# Altium schematic symbol library MCU_Microchip_PIC12.SchLib: 114 symbols (part 1 of 2)
Pins are listed as number, name and electrical type; pins without a type are passive.

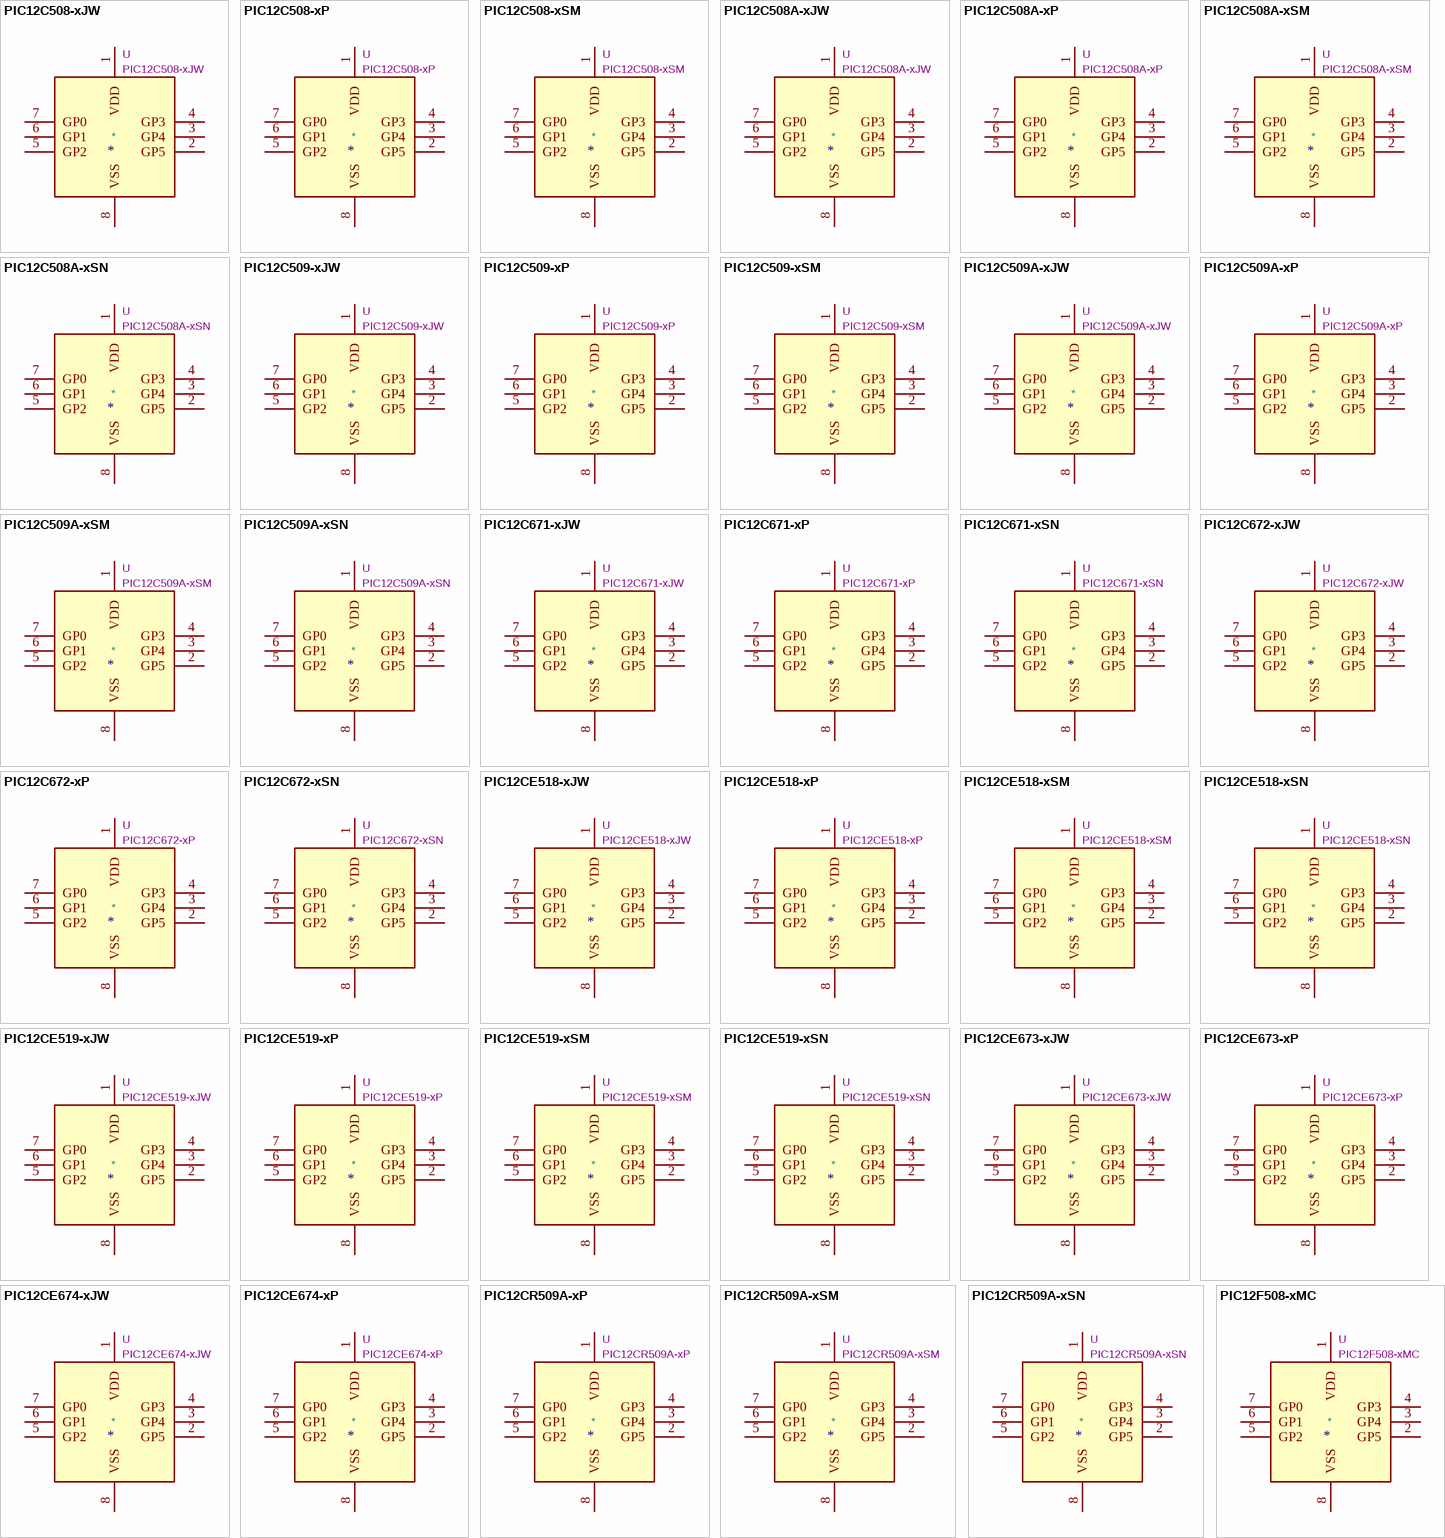
[diagram p0: symbols PIC12C508-xJW to PIC12F508-xMC]

## PIC12C508-xJW
designator *  value PIC12C508-xJW  Reference: U
PIC12C508, 512W EPROM, 25B SRAM, CERDIP-8 Windowed; ki_keywords: 8-Bit CMOS Microcontroller; ki_fp_filters: CERDIP*7.62mm*SideBrazed*; Footprint: Package_DIP:CERDIP-8_W7.62mm_SideBrazed; Datasheet: https://ww1.microchip.com/downloads/en/devicedoc/40139e.pdf; Description_: PIC12C508, 512W EPROM, 25B SRAM, CERDIP-8 Windowed
pins: 1 VDD, 2 GP5, 3 GP4, 4 GP3, 5 GP2, 6 GP1, 7 GP0, 8 VSS

## PIC12C508-xP
designator *  value PIC12C508-xP  Reference: U
512W EPROM, 25B SRAM, PDIP-8; ki_keywords: 8-Bit CMOS Microcontroller; ki_fp_filters: DIP*W7.62mm*; Footprint: Package_DIP:DIP-8_W7.62mm; Datasheet: https://ww1.microchip.com/downloads/en/devicedoc/40139e.pdf; Description_: 512W EPROM, 25B SRAM, PDIP-8
pins: 1 VDD, 2 GP5, 3 GP4, 4 GP3, 5 GP2, 6 GP1, 7 GP0, 8 VSS

## PIC12C508-xSM
designator *  value PIC12C508-xSM  Reference: U
PIC12C508, 512W EPROM, 25B SRAM, SOIC-8 (208 mil); ki_keywords: 8-Bit CMOS Microcontroller; ki_fp_filters: *SOIC*5.3x5.3mm*P1.27mm*; Footprint: Package_SO:SOIC-8_5.3x5.3mm_P1.27mm; Datasheet: https://ww1.microchip.com/downloads/en/devicedoc/40139e.pdf; Description_: PIC12C508, 512W EPROM, 25B SRAM, SOIC-8 (208 mil)
pins: 1 VDD, 2 GP5, 3 GP4, 4 GP3, 5 GP2, 6 GP1, 7 GP0, 8 VSS

## PIC12C508A-xJW
designator *  value PIC12C508A-xJW  Reference: U
PIC12C508A, 512W EPROM, 25B SRAM, CERDIP-8 Windowed; ki_keywords: 8-Bit CMOS Microcontroller; ki_fp_filters: CERDIP*7.62mm*SideBrazed*; Footprint: Package_DIP:CERDIP-8_W7.62mm_SideBrazed; Datasheet: https://ww1.microchip.com/downloads/en/devicedoc/40139e.pdf; Description_: PIC12C508A, 512W EPROM, 25B SRAM, CERDIP-8 Windowed
pins: 1 VDD, 2 GP5, 3 GP4, 4 GP3, 5 GP2, 6 GP1, 7 GP0, 8 VSS

## PIC12C508A-xP
designator *  value PIC12C508A-xP  Reference: U
512W EPROM, 25B SRAM, PDIP-8; ki_keywords: 8-Bit CMOS Microcontroller; ki_fp_filters: DIP*W7.62mm*; Footprint: Package_DIP:DIP-8_W7.62mm; Datasheet: https://ww1.microchip.com/downloads/en/devicedoc/40139e.pdf; Description_: 512W EPROM, 25B SRAM, PDIP-8
pins: 1 VDD, 2 GP5, 3 GP4, 4 GP3, 5 GP2, 6 GP1, 7 GP0, 8 VSS

## PIC12C508A-xSM
designator *  value PIC12C508A-xSM  Reference: U
PIC12C508A, 512W EPROM, 25B SRAM, SOIC-8 (208 mil); ki_keywords: 8-Bit CMOS Microcontroller; ki_fp_filters: *SOIC*5.3x5.3mm*P1.27mm*; Footprint: Package_SO:SOIC-8_5.3x5.3mm_P1.27mm; Datasheet: https://ww1.microchip.com/downloads/en/devicedoc/40139e.pdf; Description_: PIC12C508A, 512W EPROM, 25B SRAM, SOIC-8 (208 mil)
pins: 1 VDD, 2 GP5, 3 GP4, 4 GP3, 5 GP2, 6 GP1, 7 GP0, 8 VSS

## PIC12C508A-xSN
designator *  value PIC12C508A-xSN  Reference: U
PIC12C508A, 512W EPROM, 25B SRAM, SOIC-8 (150 mil); ki_keywords: 8-Bit CMOS Microcontroller; ki_fp_filters: SOIC*3.9x4.9mm*; Footprint: Package_SO:SOIC-8_3.9x4.9mm_P1.27mm; Datasheet: https://ww1.microchip.com/downloads/en/devicedoc/40139e.pdf; Description_: PIC12C508A, 512W EPROM, 25B SRAM, SOIC-8 (150 mil)
pins: 1 VDD, 2 GP5, 3 GP4, 4 GP3, 5 GP2, 6 GP1, 7 GP0, 8 VSS

## PIC12C509-xJW
designator *  value PIC12C509-xJW  Reference: U
PIC12C509, 1024W EPROM, 41B SRAM, CERDIP-8 Windowed; ki_keywords: 8-Bit CMOS Microcontroller; ki_fp_filters: CERDIP*7.62mm*SideBrazed*; Footprint: Package_DIP:CERDIP-8_W7.62mm_SideBrazed; Datasheet: https://ww1.microchip.com/downloads/en/devicedoc/40139e.pdf; Description_: PIC12C509, 1024W EPROM, 41B SRAM, CERDIP-8 Windowed
pins: 1 VDD, 2 GP5, 3 GP4, 4 GP3, 5 GP2, 6 GP1, 7 GP0, 8 VSS

## PIC12C509-xP
designator *  value PIC12C509-xP  Reference: U
1024W EPROM, 41B SRAM, PDIP-8; ki_keywords: 8-Bit CMOS Microcontroller; ki_fp_filters: DIP*W7.62mm*; Footprint: Package_DIP:DIP-8_W7.62mm; Datasheet: https://ww1.microchip.com/downloads/en/devicedoc/40139e.pdf; Description_: 1024W EPROM, 41B SRAM, PDIP-8
pins: 1 VDD, 2 GP5, 3 GP4, 4 GP3, 5 GP2, 6 GP1, 7 GP0, 8 VSS

## PIC12C509-xSM
designator *  value PIC12C509-xSM  Reference: U
PIC12C509, 1024W EPROM, 41B SRAM, SOIC-8 (208 mil); ki_keywords: 8-Bit CMOS Microcontroller; ki_fp_filters: *SOIC*5.3x5.3mm*P1.27mm*; Footprint: Package_SO:SOIC-8_5.3x5.3mm_P1.27mm; Datasheet: https://ww1.microchip.com/downloads/en/devicedoc/40139e.pdf; Description_: PIC12C509, 1024W EPROM, 41B SRAM, SOIC-8 (208 mil)
pins: 1 VDD, 2 GP5, 3 GP4, 4 GP3, 5 GP2, 6 GP1, 7 GP0, 8 VSS

## PIC12C509A-xJW
designator *  value PIC12C509A-xJW  Reference: U
PIC12C509A, 1024W EPROM, 41B SRAM, CERDIP-8 Windowed; ki_keywords: 8-Bit CMOS Microcontroller; ki_fp_filters: CERDIP*7.62mm*SideBrazed*; Footprint: Package_DIP:CERDIP-8_W7.62mm_SideBrazed; Datasheet: https://ww1.microchip.com/downloads/en/devicedoc/40139e.pdf; Description_: PIC12C509A, 1024W EPROM, 41B SRAM, CERDIP-8 Windowed
pins: 1 VDD, 2 GP5, 3 GP4, 4 GP3, 5 GP2, 6 GP1, 7 GP0, 8 VSS

## PIC12C509A-xP
designator *  value PIC12C509A-xP  Reference: U
PIC12C509, 1024W EPROM, 41B SRAM, PDIP-8; ki_keywords: 8-Bit CMOS Microcontroller; ki_fp_filters: DIP*W7.62mm*; Footprint: Package_DIP:DIP-8_W7.62mm; Datasheet: https://ww1.microchip.com/downloads/en/devicedoc/40139e.pdf; Description_: PIC12C509, 1024W EPROM, 41B SRAM, PDIP-8
pins: 1 VDD, 2 GP5, 3 GP4, 4 GP3, 5 GP2, 6 GP1, 7 GP0, 8 VSS

## PIC12C509A-xSM
designator *  value PIC12C509A-xSM  Reference: U
PIC12C509A, 1024W EPROM, 41B SRAM, SOIC-8 (208 mil); ki_keywords: 8-Bit CMOS Microcontroller; ki_fp_filters: *SOIC*5.3x5.3mm*P1.27mm*; Footprint: Package_SO:SOIC-8_5.3x5.3mm_P1.27mm; Datasheet: https://ww1.microchip.com/downloads/en/devicedoc/40139e.pdf; Description_: PIC12C509A, 1024W EPROM, 41B SRAM, SOIC-8 (208 mil)
pins: 1 VDD, 2 GP5, 3 GP4, 4 GP3, 5 GP2, 6 GP1, 7 GP0, 8 VSS

## PIC12C509A-xSN
designator *  value PIC12C509A-xSN  Reference: U
PIC12C509A, 1024W EPROM, 41B SRAM, SOIC-8 (150 mil); ki_keywords: 8-Bit CMOS Microcontroller; ki_fp_filters: SOIC*3.9x4.9mm*; Footprint: Package_SO:SOIC-8_3.9x4.9mm_P1.27mm; Datasheet: https://ww1.microchip.com/downloads/en/devicedoc/40139e.pdf; Description_: PIC12C509A, 1024W EPROM, 41B SRAM, SOIC-8 (150 mil)
pins: 1 VDD, 2 GP5, 3 GP4, 4 GP3, 5 GP2, 6 GP1, 7 GP0, 8 VSS

## PIC12C671-xJW
designator *  value PIC12C671-xJW  Reference: U
PIC12C671, 1024W EPROM, 128B SRAM, CERDIP-8 Windowed; ki_keywords: 8-Bit CMOS Microcontroller; ki_fp_filters: CERDIP*7.62mm*SideBrazed*; Footprint: Package_DIP:CERDIP-8_W7.62mm_SideBrazed; Datasheet: https://ww1.microchip.com/downloads/en/DeviceDoc/30561b.pdf; Description_: PIC12C671, 1024W EPROM, 128B SRAM, CERDIP-8 Windowed
pins: 1 VDD, 2 GP5, 3 GP4, 4 GP3, 5 GP2, 6 GP1, 7 GP0, 8 VSS

## PIC12C671-xP
designator *  value PIC12C671-xP  Reference: U
1024W EPROM, 128B SRAM, PDIP-8; ki_keywords: 8-Bit CMOS Microcontroller; ki_fp_filters: DIP*W7.62mm*; Footprint: Package_DIP:DIP-8_W7.62mm; Datasheet: https://ww1.microchip.com/downloads/en/DeviceDoc/30561b.pdf; Description_: 1024W EPROM, 128B SRAM, PDIP-8
pins: 1 VDD, 2 GP5, 3 GP4, 4 GP3, 5 GP2, 6 GP1, 7 GP0, 8 VSS

## PIC12C671-xSN
designator *  value PIC12C671-xSN  Reference: U
PIC12C671, 1024W EPROM, 128B SRAM, SOIC-8; ki_keywords: 8-Bit CMOS Microcontroller; ki_fp_filters: SOIC*3.9x4.9mm*; Footprint: Package_SO:SOIC-8_3.9x4.9mm_P1.27mm; Datasheet: https://ww1.microchip.com/downloads/en/DeviceDoc/30561b.pdf; Description_: PIC12C671, 1024W EPROM, 128B SRAM, SOIC-8
pins: 1 VDD, 2 GP5, 3 GP4, 4 GP3, 5 GP2, 6 GP1, 7 GP0, 8 VSS

## PIC12C672-xJW
designator *  value PIC12C672-xJW  Reference: U
PIC12C672, 2048W EPROM, 128B SRAM, CERDIP-8 Windowed; ki_keywords: 8-Bit CMOS Microcontroller; ki_fp_filters: CERDIP*7.62mm*SideBrazed*; Footprint: Package_DIP:CERDIP-8_W7.62mm_SideBrazed; Datasheet: https://ww1.microchip.com/downloads/en/DeviceDoc/30561b.pdf; Description_: PIC12C672, 2048W EPROM, 128B SRAM, CERDIP-8 Windowed
pins: 1 VDD, 2 GP5, 3 GP4, 4 GP3, 5 GP2, 6 GP1, 7 GP0, 8 VSS

## PIC12C672-xP
designator *  value PIC12C672-xP  Reference: U
2048W EPROM, 128B SRAM, PDIP-8; ki_keywords: 8-Bit CMOS Microcontroller; ki_fp_filters: DIP*W7.62mm*; Footprint: Package_DIP:DIP-8_W7.62mm; Datasheet: https://ww1.microchip.com/downloads/en/DeviceDoc/30561b.pdf; Description_: 2048W EPROM, 128B SRAM, PDIP-8
pins: 1 VDD, 2 GP5, 3 GP4, 4 GP3, 5 GP2, 6 GP1, 7 GP0, 8 VSS

## PIC12C672-xSN
designator *  value PIC12C672-xSN  Reference: U
PIC12C672, 2048W EPROM, 128B SRAM, SOIC-8; ki_keywords: 8-Bit CMOS Microcontroller; ki_fp_filters: SOIC*3.9x4.9mm*; Footprint: Package_SO:SOIC-8_3.9x4.9mm_P1.27mm; Datasheet: https://ww1.microchip.com/downloads/en/DeviceDoc/30561b.pdf; Description_: PIC12C672, 2048W EPROM, 128B SRAM, SOIC-8
pins: 1 VDD, 2 GP5, 3 GP4, 4 GP3, 5 GP2, 6 GP1, 7 GP0, 8 VSS

## PIC12CE518-xJW
designator *  value PIC12CE518-xJW  Reference: U
PIC12CE518, 512W EPROM, 25B SRAM, CERDIP-8 Windowed; ki_keywords: 8-Bit CMOS Microcontroller; ki_fp_filters: CERDIP*7.62mm*SideBrazed*; Footprint: Package_DIP:CERDIP-8_W7.62mm_SideBrazed; Datasheet: https://ww1.microchip.com/downloads/en/devicedoc/40139e.pdf; Description_: PIC12CE518, 512W EPROM, 25B SRAM, CERDIP-8 Windowed
pins: 1 VDD, 2 GP5, 3 GP4, 4 GP3, 5 GP2, 6 GP1, 7 GP0, 8 VSS

## PIC12CE518-xP
designator *  value PIC12CE518-xP  Reference: U
512W EPROM, 25B SRAM, PDIP-8; ki_keywords: 8-Bit CMOS Microcontroller; ki_fp_filters: DIP*W7.62mm*; Footprint: Package_DIP:DIP-8_W7.62mm; Datasheet: https://ww1.microchip.com/downloads/en/devicedoc/40139e.pdf; Description_: 512W EPROM, 25B SRAM, PDIP-8
pins: 1 VDD, 2 GP5, 3 GP4, 4 GP3, 5 GP2, 6 GP1, 7 GP0, 8 VSS

## PIC12CE518-xSM
designator *  value PIC12CE518-xSM  Reference: U
PIC12CE518, 512W EPROM, 25B SRAM, SOIC-8 (208 mil); ki_keywords: 8-Bit CMOS Microcontroller; ki_fp_filters: *SOIC*5.3x5.3mm*P1.27mm*; Footprint: Package_SO:SOIC-8_5.3x5.3mm_P1.27mm; Datasheet: https://ww1.microchip.com/downloads/en/devicedoc/40139e.pdf; Description_: PIC12CE518, 512W EPROM, 25B SRAM, SOIC-8 (208 mil)
pins: 1 VDD, 2 GP5, 3 GP4, 4 GP3, 5 GP2, 6 GP1, 7 GP0, 8 VSS

## PIC12CE518-xSN
designator *  value PIC12CE518-xSN  Reference: U
PIC12CE518, 512W EPROM, 25B SRAM, SOIC-8 (150 mil); ki_keywords: 8-Bit CMOS Microcontroller; ki_fp_filters: SOIC*3.9x4.9mm*; Footprint: Package_SO:SOIC-8_3.9x4.9mm_P1.27mm; Datasheet: https://ww1.microchip.com/downloads/en/devicedoc/40139e.pdf; Description_: PIC12CE518, 512W EPROM, 25B SRAM, SOIC-8 (150 mil)
pins: 1 VDD, 2 GP5, 3 GP4, 4 GP3, 5 GP2, 6 GP1, 7 GP0, 8 VSS

## PIC12CE519-xJW
designator *  value PIC12CE519-xJW  Reference: U
PIC12CE519, 1024W EPROM, 41B SRAM, CERDIP-8 Windowed; ki_keywords: 8-Bit CMOS Microcontroller; ki_fp_filters: CERDIP*7.62mm*SideBrazed*; Footprint: Package_DIP:CERDIP-8_W7.62mm_SideBrazed; Datasheet: https://ww1.microchip.com/downloads/en/devicedoc/40139e.pdf; Description_: PIC12CE519, 1024W EPROM, 41B SRAM, CERDIP-8 Windowed
pins: 1 VDD, 2 GP5, 3 GP4, 4 GP3, 5 GP2, 6 GP1, 7 GP0, 8 VSS

## PIC12CE519-xP
designator *  value PIC12CE519-xP  Reference: U
1024W EPROM, 41B SRAM, PDIP-8; ki_keywords: 8-Bit CMOS Microcontroller; ki_fp_filters: DIP*W7.62mm*; Footprint: Package_DIP:DIP-8_W7.62mm; Datasheet: https://ww1.microchip.com/downloads/en/devicedoc/40139e.pdf; Description_: 1024W EPROM, 41B SRAM, PDIP-8
pins: 1 VDD, 2 GP5, 3 GP4, 4 GP3, 5 GP2, 6 GP1, 7 GP0, 8 VSS

## PIC12CE519-xSM
designator *  value PIC12CE519-xSM  Reference: U
1024W EPROM, 41B SRAM, SOIC-8 (208 mil); ki_keywords: 8-Bit CMOS Microcontroller; ki_fp_filters: *SOIC*5.3x5.3mm*P1.27mm*; Footprint: Package_SO:SOIC-8_5.3x5.3mm_P1.27mm; Datasheet: https://ww1.microchip.com/downloads/en/devicedoc/40139e.pdf; Description_: 1024W EPROM, 41B SRAM, SOIC-8 (208 mil)
pins: 1 VDD, 2 GP5, 3 GP4, 4 GP3, 5 GP2, 6 GP1, 7 GP0, 8 VSS

## PIC12CE519-xSN
designator *  value PIC12CE519-xSN  Reference: U
PIC12CE519, 1024W EPROM, 41B SRAM, SOIC-8 (150 mil); ki_keywords: 8-Bit CMOS Microcontroller; ki_fp_filters: SOIC*3.9x4.9mm*; Footprint: Package_SO:SOIC-8_3.9x4.9mm_P1.27mm; Datasheet: https://ww1.microchip.com/downloads/en/devicedoc/40139e.pdf; Description_: PIC12CE519, 1024W EPROM, 41B SRAM, SOIC-8 (150 mil)
pins: 1 VDD, 2 GP5, 3 GP4, 4 GP3, 5 GP2, 6 GP1, 7 GP0, 8 VSS

## PIC12CE673-xJW
designator *  value PIC12CE673-xJW  Reference: U
PIC12CE673, 1024W EPROM, 128B SRAM, 128B EEPROM, CERDIP-8 Windowed; ki_keywords: 8-Bit CMOS Microcontroller; ki_fp_filters: CERDIP*7.62mm*SideBrazed*; Footprint: Package_DIP:CERDIP-8_W7.62mm_SideBrazed; Datasheet: https://ww1.microchip.com/downloads/en/DeviceDoc/30561b.pdf; Description_: PIC12CE673, 1024W EPROM, 128B SRAM, 128B EEPROM, CERDIP-8 Windowed
pins: 1 VDD, 2 GP5, 3 GP4, 4 GP3, 5 GP2, 6 GP1, 7 GP0, 8 VSS

## PIC12CE673-xP
designator *  value PIC12CE673-xP  Reference: U
1024W EPROM, 128B SRAM, 128B EPROM, PDIP-8; ki_keywords: 8-Bit CMOS Microcontroller; ki_fp_filters: DIP*W7.62mm*; Footprint: Package_DIP:DIP-8_W7.62mm; Datasheet: https://ww1.microchip.com/downloads/en/DeviceDoc/30561b.pdf; Description_: 1024W EPROM, 128B SRAM, 128B EPROM, PDIP-8
pins: 1 VDD, 2 GP5, 3 GP4, 4 GP3, 5 GP2, 6 GP1, 7 GP0, 8 VSS

## PIC12CE674-xJW
designator *  value PIC12CE674-xJW  Reference: U
PIC12CE674, 2048W EPROM, 128B SRAM, 128B EEPROM, CERDIP-8 Windowed; ki_keywords: 8-Bit CMOS Microcontroller; ki_fp_filters: CERDIP*7.62mm*SideBrazed*; Footprint: Package_DIP:CERDIP-8_W7.62mm_SideBrazed; Datasheet: https://ww1.microchip.com/downloads/en/DeviceDoc/30561b.pdf; Description_: PIC12CE674, 2048W EPROM, 128B SRAM, 128B EEPROM, CERDIP-8 Windowed
pins: 1 VDD, 2 GP5, 3 GP4, 4 GP3, 5 GP2, 6 GP1, 7 GP0, 8 VSS

## PIC12CE674-xP
designator *  value PIC12CE674-xP  Reference: U
2048W EPROM, 128B SRAM, 128B EPROM, PDIP-8; ki_keywords: 8-Bit CMOS Microcontroller; ki_fp_filters: DIP*W7.62mm*; Footprint: Package_DIP:DIP-8_W7.62mm; Datasheet: https://ww1.microchip.com/downloads/en/DeviceDoc/30561b.pdf; Description_: 2048W EPROM, 128B SRAM, 128B EPROM, PDIP-8
pins: 1 VDD, 2 GP5, 3 GP4, 4 GP3, 5 GP2, 6 GP1, 7 GP0, 8 VSS

## PIC12CR509A-xP
designator *  value PIC12CR509A-xP  Reference: U
1024W ROM, 41B SRAM, PDIP-8; ki_keywords: 8-Bit CMOS Microcontroller; ki_fp_filters: DIP*W7.62mm*; Footprint: Package_DIP:DIP-8_W7.62mm; Datasheet: https://ww1.microchip.com/downloads/en/devicedoc/40139e.pdf; Description_: 1024W ROM, 41B SRAM, PDIP-8
pins: 1 VDD, 2 GP5, 3 GP4, 4 GP3, 5 GP2, 6 GP1, 7 GP0, 8 VSS

## PIC12CR509A-xSM
designator *  value PIC12CR509A-xSM  Reference: U
PIC12CR509A, 1024W ROM, 41B SRAM, SOIC-8 (208 mil); ki_keywords: 8-Bit CMOS Microcontroller; ki_fp_filters: *SOIC*5.3x5.3mm*P1.27mm*; Footprint: Package_SO:SOIC-8_5.3x5.3mm_P1.27mm; Datasheet: https://ww1.microchip.com/downloads/en/devicedoc/40139e.pdf; Description_: PIC12CR509A, 1024W ROM, 41B SRAM, SOIC-8 (208 mil)
pins: 1 VDD, 2 GP5, 3 GP4, 4 GP3, 5 GP2, 6 GP1, 7 GP0, 8 VSS

## PIC12CR509A-xSN
designator *  value PIC12CR509A-xSN  Reference: U
PIC12CR509A, 1024W ROM, 41B SRAM, SOIC-8 (150 mil); ki_keywords: 8-Bit CMOS Microcontroller; ki_fp_filters: SOIC*3.9x4.9mm*; Footprint: Package_SO:SOIC-8_3.9x4.9mm_P1.27mm; Datasheet: https://ww1.microchip.com/downloads/en/devicedoc/40139e.pdf; Description_: PIC12CR509A, 1024W ROM, 41B SRAM, SOIC-8 (150 mil)
pins: 1 VDD, 2 GP5, 3 GP4, 4 GP3, 5 GP2, 6 GP1, 7 GP0, 8 VSS

## PIC12F508-xMC
designator *  value PIC12F508-xMC  Reference: U
PIC12F508, 512W Flash, 25B SRAM, DFN-8; ki_keywords: FLASH-Based 8-Bit CMOS Microcontroller; ki_fp_filters: DFN*1EP*3x2mm*P0.5mm*; Footprint: Package_DFN_QFN:DFN-8-1EP_3x2mm_P0.5mm_EP1.7x1.4mm; Datasheet: https://ww1.microchip.com/downloads/en/DeviceDoc/41236E.pdf; Description_: PIC12F508, 512W Flash, 25B SRAM, DFN-8
pins: 1 VDD, 2 GP5, 3 GP4, 4 GP3, 5 GP2, 6 GP1, 7 GP0, 8 VSS

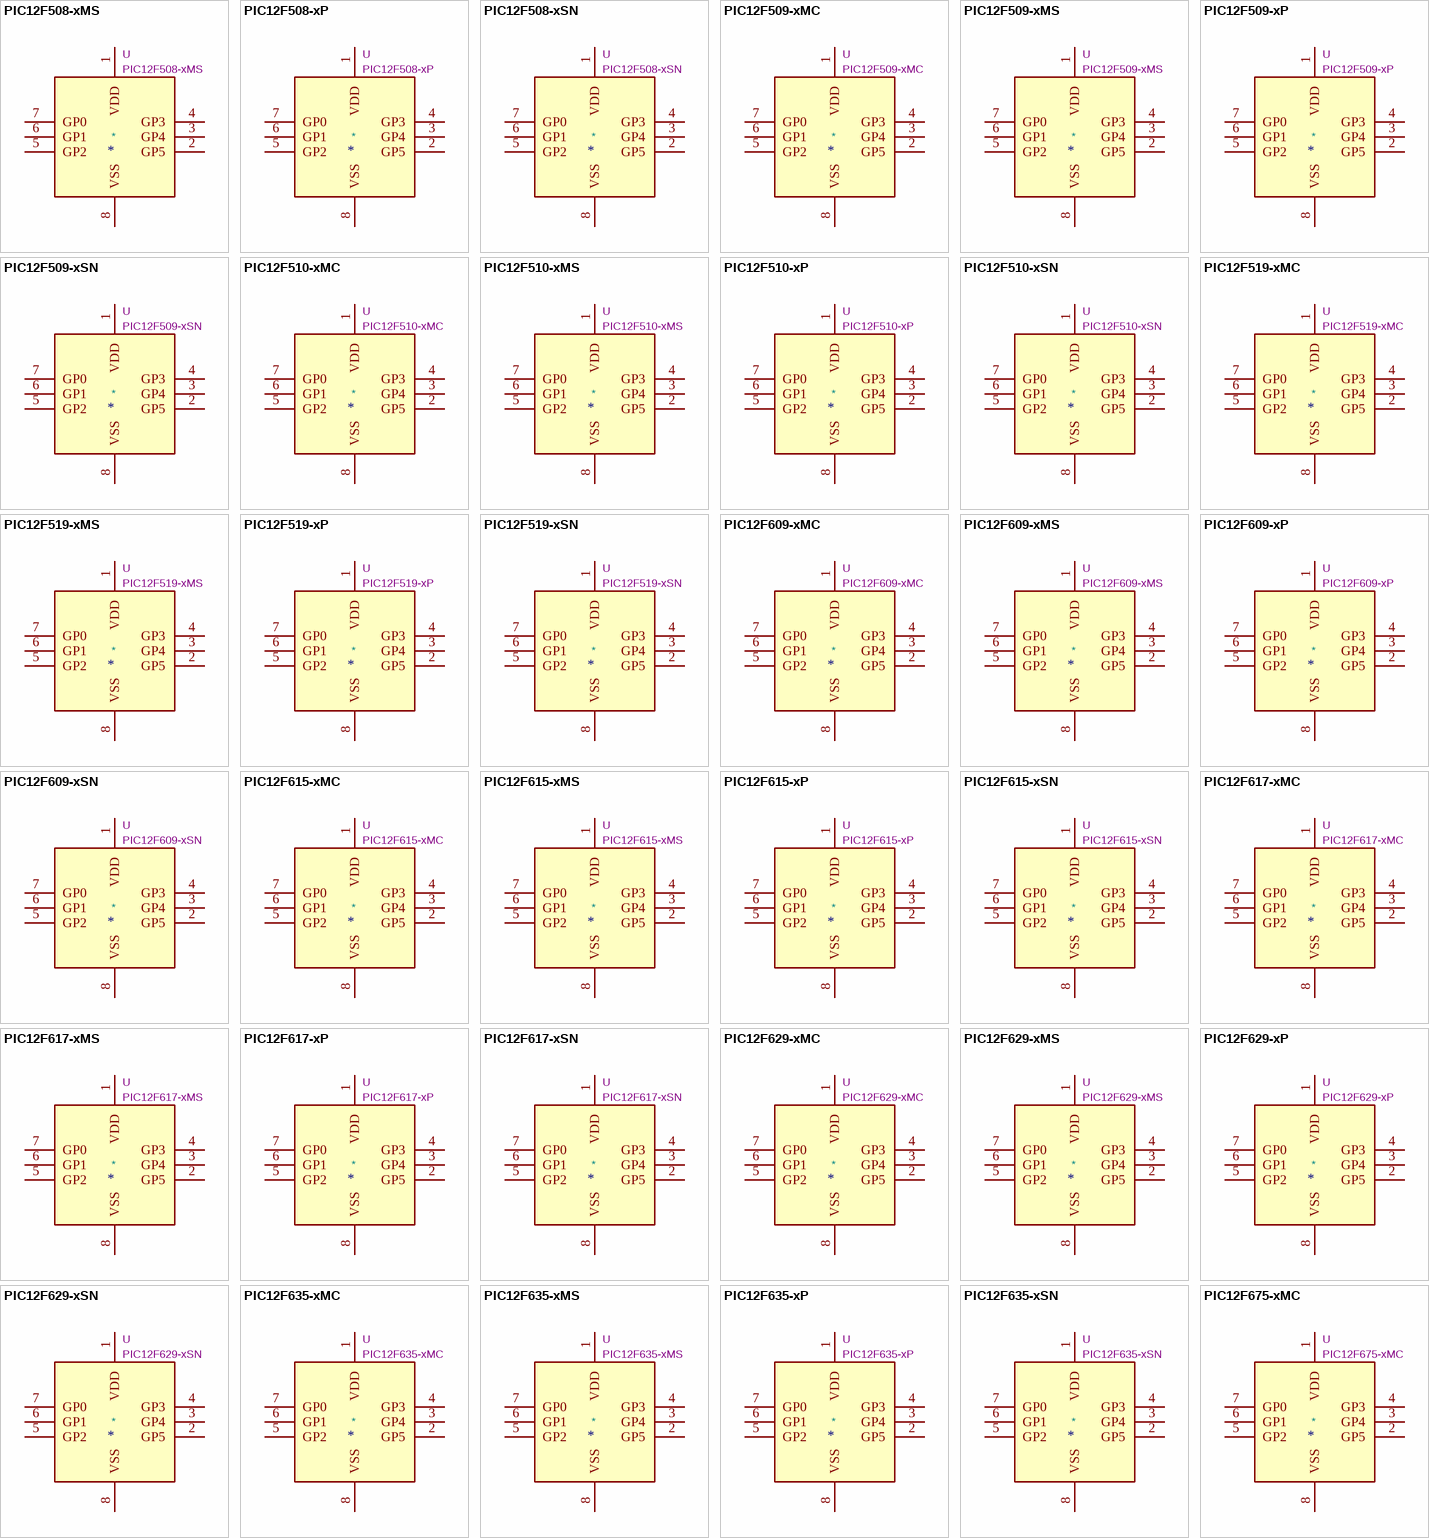
[diagram p1: symbols PIC12F508-xMS to PIC12F675-xMC]

## PIC12F508-xMS
designator *  value PIC12F508-xMS  Reference: U
PIC12F508, 512W Flash, 25B SRAM, MSOP-8; ki_keywords: FLASH-Based 8-Bit CMOS Microcontroller; ki_fp_filters: MSOP*3x3mm*P0.65mm*; Footprint: Package_SO:MSOP-8_3x3mm_P0.65mm; Datasheet: https://ww1.microchip.com/downloads/en/DeviceDoc/41236E.pdf; Description_: PIC12F508, 512W Flash, 25B SRAM, MSOP-8
pins: 1 VDD, 2 GP5, 3 GP4, 4 GP3, 5 GP2, 6 GP1, 7 GP0, 8 VSS

## PIC12F508-xP
designator *  value PIC12F508-xP  Reference: U
512W Flash, 25B SRAM, PDIP-8; ki_keywords: FLASH-Based 8-Bit CMOS Microcontroller; ki_fp_filters: DIP*W7.62mm*; Footprint: Package_DIP:DIP-8_W7.62mm; Datasheet: https://ww1.microchip.com/downloads/en/DeviceDoc/41236E.pdf; Description_: 512W Flash, 25B SRAM, PDIP-8
pins: 1 VDD, 2 GP5, 3 GP4, 4 GP3, 5 GP2, 6 GP1, 7 GP0, 8 VSS

## PIC12F508-xSN
designator *  value PIC12F508-xSN  Reference: U
PIC12F508, 512W Flash, 25B SRAM, SOIC-8; ki_keywords: FLASH-Based 8-Bit CMOS Microcontroller; ki_fp_filters: SOIC*3.9x4.9mm*; Footprint: Package_SO:SOIC-8_3.9x4.9mm_P1.27mm; Datasheet: https://ww1.microchip.com/downloads/en/DeviceDoc/41236E.pdf; Description_: PIC12F508, 512W Flash, 25B SRAM, SOIC-8
pins: 1 VDD, 2 GP5, 3 GP4, 4 GP3, 5 GP2, 6 GP1, 7 GP0, 8 VSS

## PIC12F509-xMC
designator *  value PIC12F509-xMC  Reference: U
PIC12F509, 1024W Flash, 41B SRAM, DFN-8; ki_keywords: FLASH-Based 8-Bit CMOS Microcontroller; ki_fp_filters: DFN*1EP*3x2mm*P0.5mm*; Footprint: Package_DFN_QFN:DFN-8-1EP_3x2mm_P0.5mm_EP1.7x1.4mm; Datasheet: https://ww1.microchip.com/downloads/en/DeviceDoc/41236E.pdf; Description_: PIC12F509, 1024W Flash, 41B SRAM, DFN-8
pins: 1 VDD, 2 GP5, 3 GP4, 4 GP3, 5 GP2, 6 GP1, 7 GP0, 8 VSS

## PIC12F509-xMS
designator *  value PIC12F509-xMS  Reference: U
PIC12F509, 1024W Flash, 41B SRAM, MSOP-8; ki_keywords: FLASH-Based 8-Bit CMOS Microcontroller; ki_fp_filters: MSOP*3x3mm*P0.65mm*; Footprint: Package_SO:MSOP-8_3x3mm_P0.65mm; Datasheet: https://ww1.microchip.com/downloads/en/DeviceDoc/41236E.pdf; Description_: PIC12F509, 1024W Flash, 41B SRAM, MSOP-8
pins: 1 VDD, 2 GP5, 3 GP4, 4 GP3, 5 GP2, 6 GP1, 7 GP0, 8 VSS

## PIC12F509-xP
designator *  value PIC12F509-xP  Reference: U
1024W Flash, 41B SRAM, PDIP-8; ki_keywords: FLASH-Based 8-Bit CMOS Microcontroller; ki_fp_filters: DIP*W7.62mm*; Footprint: Package_DIP:DIP-8_W7.62mm; Datasheet: https://ww1.microchip.com/downloads/en/DeviceDoc/41236E.pdf; Description_: 1024W Flash, 41B SRAM, PDIP-8
pins: 1 VDD, 2 GP5, 3 GP4, 4 GP3, 5 GP2, 6 GP1, 7 GP0, 8 VSS

## PIC12F509-xSN
designator *  value PIC12F509-xSN  Reference: U
PIC12F509, 1024W Flash, 41B SRAM, SOIC-8; ki_keywords: FLASH-Based 8-Bit CMOS Microcontroller; ki_fp_filters: SOIC*3.9x4.9mm*; Footprint: Package_SO:SOIC-8_3.9x4.9mm_P1.27mm; Datasheet: https://ww1.microchip.com/downloads/en/DeviceDoc/41236E.pdf; Description_: PIC12F509, 1024W Flash, 41B SRAM, SOIC-8
pins: 1 VDD, 2 GP5, 3 GP4, 4 GP3, 5 GP2, 6 GP1, 7 GP0, 8 VSS

## PIC12F510-xMC
designator *  value PIC12F510-xMC  Reference: U
PIC12F510, 1024W FLASH, 38B SRAM, DFN-8; ki_keywords: FLASH-Based 8-Bit CMOS Microcontroller; ki_fp_filters: DFN*1EP*3x2mm*P0.5mm*; Footprint: Package_DFN_QFN:DFN-8-1EP_3x2mm_P0.5mm_EP1.7x1.4mm; Datasheet: https://ww1.microchip.com/downloads/en/DeviceDoc/41268D.pdf; Description_: PIC12F510, 1024W FLASH, 38B SRAM, DFN-8
pins: 1 VDD, 2 GP5, 3 GP4, 4 GP3, 5 GP2, 6 GP1, 7 GP0, 8 VSS

## PIC12F510-xMS
designator *  value PIC12F510-xMS  Reference: U
PIC12F510, 1024W FLASH, 38B SRAM, MSOP-8; ki_keywords: FLASH-Based 8-Bit CMOS Microcontroller; ki_fp_filters: MSOP*3x3mm*P0.65mm*; Footprint: Package_SO:MSOP-8_3x3mm_P0.65mm; Datasheet: https://ww1.microchip.com/downloads/en/DeviceDoc/41268D.pdf; Description_: PIC12F510, 1024W FLASH, 38B SRAM, MSOP-8
pins: 1 VDD, 2 GP5, 3 GP4, 4 GP3, 5 GP2, 6 GP1, 7 GP0, 8 VSS

## PIC12F510-xP
designator *  value PIC12F510-xP  Reference: U
1024W FLASH, 38B SRAM, PDIP-8; ki_keywords: FLASH-Based 8-Bit CMOS Microcontroller; ki_fp_filters: DIP*W7.62mm*; Footprint: Package_DIP:DIP-8_W7.62mm; Datasheet: https://ww1.microchip.com/downloads/en/DeviceDoc/41268D.pdf; Description_: 1024W FLASH, 38B SRAM, PDIP-8
pins: 1 VDD, 2 GP5, 3 GP4, 4 GP3, 5 GP2, 6 GP1, 7 GP0, 8 VSS

## PIC12F510-xSN
designator *  value PIC12F510-xSN  Reference: U
PIC12F510, 1024W FLASH, 38B SRAM, SOIC-8; ki_keywords: FLASH-Based 8-Bit CMOS Microcontroller; ki_fp_filters: SOIC*3.9x4.9mm*; Footprint: Package_SO:SOIC-8_3.9x4.9mm_P1.27mm; Datasheet: https://ww1.microchip.com/downloads/en/DeviceDoc/41268D.pdf; Description_: PIC12F510, 1024W FLASH, 38B SRAM, SOIC-8
pins: 1 VDD, 2 GP5, 3 GP4, 4 GP3, 5 GP2, 6 GP1, 7 GP0, 8 VSS

## PIC12F519-xMC
designator *  value PIC12F519-xMC  Reference: U
PIC12F519, 1024W Flash, 41B SRAM, 64B EEPROM, DFN-8; ki_keywords: FLASH-Based 8-Bit CMOS Microcontroller; ki_fp_filters: DFN*1EP*3x2mm*P0.5mm*; Footprint: Package_DFN_QFN:DFN-8-1EP_3x2mm_P0.5mm_EP1.7x1.4mm; Datasheet: https://ww1.microchip.com/downloads/en/DeviceDoc/41319B.pdf; Description_: PIC12F519, 1024W Flash, 41B SRAM, 64B EEPROM, DFN-8
pins: 1 VDD, 2 GP5, 3 GP4, 4 GP3, 5 GP2, 6 GP1, 7 GP0, 8 VSS

## PIC12F519-xMS
designator *  value PIC12F519-xMS  Reference: U
PIC12F519, 1024W Flash, 41B SRAM, 64B EEPROM, MSOP-8; ki_keywords: FLASH-Based 8-Bit CMOS Microcontroller; ki_fp_filters: MSOP*3x3mm*P0.65mm*; Footprint: Package_SO:MSOP-8_3x3mm_P0.65mm; Datasheet: https://ww1.microchip.com/downloads/en/DeviceDoc/41319B.pdf; Description_: PIC12F519, 1024W Flash, 41B SRAM, 64B EEPROM, MSOP-8
pins: 1 VDD, 2 GP5, 3 GP4, 4 GP3, 5 GP2, 6 GP1, 7 GP0, 8 VSS

## PIC12F519-xP
designator *  value PIC12F519-xP  Reference: U
1024W Flash, 41B SRAM, 64B EEPROM, PDIP-8; ki_keywords: FLASH-Based 8-Bit CMOS Microcontroller; ki_fp_filters: DIP*W7.62mm*; Footprint: Package_DIP:DIP-8_W7.62mm; Datasheet: https://ww1.microchip.com/downloads/en/DeviceDoc/41319B.pdf; Description_: 1024W Flash, 41B SRAM, 64B EEPROM, PDIP-8
pins: 1 VDD, 2 GP5, 3 GP4, 4 GP3, 5 GP2, 6 GP1, 7 GP0, 8 VSS

## PIC12F519-xSN
designator *  value PIC12F519-xSN  Reference: U
PIC12F519, 1024W Flash, 41B SRAM, 64B EEPROM, SOIC-8; ki_keywords: FLASH-Based 8-Bit CMOS Microcontroller; ki_fp_filters: SOIC*3.9x4.9mm*; Footprint: Package_SO:SOIC-8_3.9x4.9mm_P1.27mm; Datasheet: https://ww1.microchip.com/downloads/en/DeviceDoc/41319B.pdf; Description_: PIC12F519, 1024W Flash, 41B SRAM, 64B EEPROM, SOIC-8
pins: 1 VDD, 2 GP5, 3 GP4, 4 GP3, 5 GP2, 6 GP1, 7 GP0, 8 VSS

## PIC12F609-xMC
designator *  value PIC12F609-xMC  Reference: U
PIC12F609, 1024W Flash, 64B SRAM, DFN-8; ki_keywords: FLASH-Based 8-Bit CMOS Microcontroller; ki_fp_filters: DFN*1EP*3x2mm*P0.5mm*; Footprint: Package_DFN_QFN:DFN-8-1EP_3x2mm_P0.5mm_EP1.7x1.4mm; Datasheet: https://ww1.microchip.com/downloads/en/DeviceDoc/41302D.pdf; Description_: PIC12F609, 1024W Flash, 64B SRAM, DFN-8
pins: 1 VDD, 2 GP5, 3 GP4, 4 GP3, 5 GP2, 6 GP1, 7 GP0, 8 VSS

## PIC12F609-xMS
designator *  value PIC12F609-xMS  Reference: U
PIC12F609, 1024W Flash, 64B SRAM, MSOP-8; ki_keywords: FLASH-Based 8-Bit CMOS Microcontroller; ki_fp_filters: MSOP*3x3mm*P0.65mm*; Footprint: Package_SO:MSOP-8_3x3mm_P0.65mm; Datasheet: https://ww1.microchip.com/downloads/en/DeviceDoc/41302D.pdf; Description_: PIC12F609, 1024W Flash, 64B SRAM, MSOP-8
pins: 1 VDD, 2 GP5, 3 GP4, 4 GP3, 5 GP2, 6 GP1, 7 GP0, 8 VSS

## PIC12F609-xP
designator *  value PIC12F609-xP  Reference: U
1024W Flash, 64B SRAM, PDIP-8; ki_keywords: FLASH-Based 8-Bit CMOS Microcontroller; ki_fp_filters: DIP*W7.62mm*; Footprint: Package_DIP:DIP-8_W7.62mm; Datasheet: https://ww1.microchip.com/downloads/en/DeviceDoc/41302D.pdf; Description_: 1024W Flash, 64B SRAM, PDIP-8
pins: 1 VDD, 2 GP5, 3 GP4, 4 GP3, 5 GP2, 6 GP1, 7 GP0, 8 VSS

## PIC12F609-xSN
designator *  value PIC12F609-xSN  Reference: U
PIC12F609, 1024W Flash, 64B SRAM, SOIC-8; ki_keywords: FLASH-Based 8-Bit CMOS Microcontroller; ki_fp_filters: SOIC*3.9x4.9mm*; Footprint: Package_SO:SOIC-8_3.9x4.9mm_P1.27mm; Datasheet: https://ww1.microchip.com/downloads/en/DeviceDoc/41302D.pdf; Description_: PIC12F609, 1024W Flash, 64B SRAM, SOIC-8
pins: 1 VDD, 2 GP5, 3 GP4, 4 GP3, 5 GP2, 6 GP1, 7 GP0, 8 VSS

## PIC12F615-xMC
designator *  value PIC12F615-xMC  Reference: U
PIC12F615, 1024W Flash, 64B SRAM, DFN-8; ki_keywords: FLASH-Based 8-Bit CMOS Microcontroller; ki_fp_filters: DFN*1EP*3x2mm*P0.5mm*; Footprint: Package_DFN_QFN:DFN-8-1EP_3x2mm_P0.5mm_EP1.7x1.4mm; Datasheet: https://ww1.microchip.com/downloads/en/DeviceDoc/41302D.pdf; Description_: PIC12F615, 1024W Flash, 64B SRAM, DFN-8
pins: 1 VDD, 2 GP5, 3 GP4, 4 GP3, 5 GP2, 6 GP1, 7 GP0, 8 VSS

## PIC12F615-xMS
designator *  value PIC12F615-xMS  Reference: U
PIC12F615, 1024W Flash, 64B SRAM, MSOP-8; ki_keywords: FLASH-Based 8-Bit CMOS Microcontroller; ki_fp_filters: MSOP*3x3mm*P0.65mm*; Footprint: Package_SO:MSOP-8_3x3mm_P0.65mm; Datasheet: https://ww1.microchip.com/downloads/en/DeviceDoc/41302D.pdf; Description_: PIC12F615, 1024W Flash, 64B SRAM, MSOP-8
pins: 1 VDD, 2 GP5, 3 GP4, 4 GP3, 5 GP2, 6 GP1, 7 GP0, 8 VSS

## PIC12F615-xP
designator *  value PIC12F615-xP  Reference: U
1024W Flash, 64B SRAM, PDIP-8; ki_keywords: FLASH-Based 8-Bit CMOS Microcontroller; ki_fp_filters: DIP*W7.62mm*; Footprint: Package_DIP:DIP-8_W7.62mm; Datasheet: https://ww1.microchip.com/downloads/en/DeviceDoc/41302D.pdf; Description_: 1024W Flash, 64B SRAM, PDIP-8
pins: 1 VDD, 2 GP5, 3 GP4, 4 GP3, 5 GP2, 6 GP1, 7 GP0, 8 VSS

## PIC12F615-xSN
designator *  value PIC12F615-xSN  Reference: U
PIC12F615, 1024W Flash, 64B SRAM, SOIC-8; ki_keywords: FLASH-Based 8-Bit CMOS Microcontroller; ki_fp_filters: SOIC*3.9x4.9mm*; Footprint: Package_SO:SOIC-8_3.9x4.9mm_P1.27mm; Datasheet: https://ww1.microchip.com/downloads/en/DeviceDoc/41302D.pdf; Description_: PIC12F615, 1024W Flash, 64B SRAM, SOIC-8
pins: 1 VDD, 2 GP5, 3 GP4, 4 GP3, 5 GP2, 6 GP1, 7 GP0, 8 VSS

## PIC12F617-xMC
designator *  value PIC12F617-xMC  Reference: U
PIC12F617, 2048W Flash, 128B SRAM, DFN-8; ki_keywords: FLASH-Based 8-Bit CMOS Microcontroller; ki_fp_filters: DFN*1EP*3x2mm*P0.5mm*; Footprint: Package_DFN_QFN:DFN-8-1EP_3x2mm_P0.5mm_EP1.7x1.4mm; Datasheet: https://ww1.microchip.com/downloads/en/DeviceDoc/41302D.pdf; Description_: PIC12F617, 2048W Flash, 128B SRAM, DFN-8
pins: 1 VDD, 2 GP5, 3 GP4, 4 GP3, 5 GP2, 6 GP1, 7 GP0, 8 VSS

## PIC12F617-xMS
designator *  value PIC12F617-xMS  Reference: U
PIC12F617, 2048W Flash, 128B SRAM, MSOP-8; ki_keywords: FLASH-Based 8-Bit CMOS Microcontroller; ki_fp_filters: MSOP*3x3mm*P0.65mm*; Footprint: Package_SO:MSOP-8_3x3mm_P0.65mm; Datasheet: https://ww1.microchip.com/downloads/en/DeviceDoc/41302D.pdf; Description_: PIC12F617, 2048W Flash, 128B SRAM, MSOP-8
pins: 1 VDD, 2 GP5, 3 GP4, 4 GP3, 5 GP2, 6 GP1, 7 GP0, 8 VSS

## PIC12F617-xP
designator *  value PIC12F617-xP  Reference: U
2048W Flash, 128B SRAM, PDIP-8; ki_keywords: FLASH-Based 8-Bit CMOS Microcontroller; ki_fp_filters: DIP*W7.62mm*; Footprint: Package_DIP:DIP-8_W7.62mm; Datasheet: https://ww1.microchip.com/downloads/en/DeviceDoc/41302D.pdf; Description_: 2048W Flash, 128B SRAM, PDIP-8
pins: 1 VDD, 2 GP5, 3 GP4, 4 GP3, 5 GP2, 6 GP1, 7 GP0, 8 VSS

## PIC12F617-xSN
designator *  value PIC12F617-xSN  Reference: U
PIC12F617, 2048W Flash, 128B SRAM, SOIC-8; ki_keywords: FLASH-Based 8-Bit CMOS Microcontroller; ki_fp_filters: SOIC*3.9x4.9mm*; Footprint: Package_SO:SOIC-8_3.9x4.9mm_P1.27mm; Datasheet: https://ww1.microchip.com/downloads/en/DeviceDoc/41302D.pdf; Description_: PIC12F617, 2048W Flash, 128B SRAM, SOIC-8
pins: 1 VDD, 2 GP5, 3 GP4, 4 GP3, 5 GP2, 6 GP1, 7 GP0, 8 VSS

## PIC12F629-xMC
designator *  value PIC12F629-xMC  Reference: U
PIC12F629, 1024W Flash, 64B SRAM, 128B EEPROM, DFN-8; ki_keywords: FLASH-Based 8-Bit CMOS Microcontroller; ki_fp_filters: DFN*1EP*3x2mm*P0.5mm*; Footprint: Package_DFN_QFN:DFN-8-1EP_3x2mm_P0.5mm_EP1.7x1.4mm; Datasheet: https://ww1.microchip.com/downloads/en/DeviceDoc/41190G.pdf; Description_: PIC12F629, 1024W Flash, 64B SRAM, 128B EEPROM, DFN-8
pins: 1 VDD, 2 GP5, 3 GP4, 4 GP3, 5 GP2, 6 GP1, 7 GP0, 8 VSS

## PIC12F629-xMS
designator *  value PIC12F629-xMS  Reference: U
1024W Flash, 64B SRAM, 128B EEPROM, PDIP8; ki_keywords: FLASH-Based 8-Bit CMOS Microcontroller; ki_fp_filters: MSOP*3x3mm*P0.65mm*; Footprint: Package_SO:MSOP-8_3x3mm_P0.65mm; Datasheet: https://ww1.microchip.com/downloads/en/DeviceDoc/41190G.pdf; Description_: 1024W Flash, 64B SRAM, 128B EEPROM, PDIP8
pins: 1 VDD, 2 GP5, 3 GP4, 4 GP3, 5 GP2, 6 GP1, 7 GP0, 8 VSS

## PIC12F629-xP
designator *  value PIC12F629-xP  Reference: U
1024W Flash, 64B SRAM, 128B EEPROM, PDIP-8; ki_keywords: FLASH-Based 8-Bit CMOS Microcontroller; ki_fp_filters: DIP*W7.62mm*; Footprint: Package_DIP:DIP-8_W7.62mm; Datasheet: https://ww1.microchip.com/downloads/en/DeviceDoc/41190G.pdf; Description_: 1024W Flash, 64B SRAM, 128B EEPROM, PDIP-8
pins: 1 VDD, 2 GP5, 3 GP4, 4 GP3, 5 GP2, 6 GP1, 7 GP0, 8 VSS

## PIC12F629-xSN
designator *  value PIC12F629-xSN  Reference: U
PIC12F629, 1024W Flash, 64B SRAM, 128B EEPROM, SOIC-8; ki_keywords: FLASH-Based 8-Bit CMOS Microcontroller; ki_fp_filters: SOIC*3.9x4.9mm*; Footprint: Package_SO:SOIC-8_3.9x4.9mm_P1.27mm; Datasheet: https://ww1.microchip.com/downloads/en/DeviceDoc/41190G.pdf; Description_: PIC12F629, 1024W Flash, 64B SRAM, 128B EEPROM, SOIC-8
pins: 1 VDD, 2 GP5, 3 GP4, 4 GP3, 5 GP2, 6 GP1, 7 GP0, 8 VSS

## PIC12F635-xMC
designator *  value PIC12F635-xMC  Reference: U
PIC12F635, 1024W Flash, 64B SRAM, 128B EEPROM, DFN-8; ki_keywords: FLASH-Based 8-Bit CMOS Microcontroller; ki_fp_filters: DFN*1EP*3x2mm*P0.5mm*; Footprint: Package_DFN_QFN:DFN-8-1EP_3x2mm_P0.5mm_EP1.7x1.4mm; Datasheet: https://ww1.microchip.com/downloads/en/DeviceDoc/41232D.pdf; Description_: PIC12F635, 1024W Flash, 64B SRAM, 128B EEPROM, DFN-8
pins: 1 VDD, 2 GP5, 3 GP4, 4 GP3, 5 GP2, 6 GP1, 7 GP0, 8 VSS

## PIC12F635-xMS
designator *  value PIC12F635-xMS  Reference: U
1024W Flash, 64B SRAM, 128B EEPROM, PDIP8; ki_keywords: FLASH-Based 8-Bit CMOS Microcontroller; ki_fp_filters: MSOP*3x3mm*P0.65mm*; Footprint: Package_SO:MSOP-8_3x3mm_P0.65mm; Datasheet: https://ww1.microchip.com/downloads/en/DeviceDoc/41232D.pdf; Description_: 1024W Flash, 64B SRAM, 128B EEPROM, PDIP8
pins: 1 VDD, 2 GP5, 3 GP4, 4 GP3, 5 GP2, 6 GP1, 7 GP0, 8 VSS

## PIC12F635-xP
designator *  value PIC12F635-xP  Reference: U
1024W Flash, 64B SRAM, 128B EEPROM, PDIP-8; ki_keywords: FLASH-Based 8-Bit CMOS Microcontroller; ki_fp_filters: DIP*W7.62mm*; Footprint: Package_DIP:DIP-8_W7.62mm; Datasheet: https://ww1.microchip.com/downloads/en/DeviceDoc/41232D.pdf; Description_: 1024W Flash, 64B SRAM, 128B EEPROM, PDIP-8
pins: 1 VDD, 2 GP5, 3 GP4, 4 GP3, 5 GP2, 6 GP1, 7 GP0, 8 VSS

## PIC12F635-xSN
designator *  value PIC12F635-xSN  Reference: U
PIC12F635, 1024W Flash, 64B SRAM, 128B EEPROM, SOIC-8; ki_keywords: FLASH-Based 8-Bit CMOS Microcontroller; ki_fp_filters: SOIC*3.9x4.9mm*; Footprint: Package_SO:SOIC-8_3.9x4.9mm_P1.27mm; Datasheet: https://ww1.microchip.com/downloads/en/DeviceDoc/41232D.pdf; Description_: PIC12F635, 1024W Flash, 64B SRAM, 128B EEPROM, SOIC-8
pins: 1 VDD, 2 GP5, 3 GP4, 4 GP3, 5 GP2, 6 GP1, 7 GP0, 8 VSS

## PIC12F675-xMC
designator *  value PIC12F675-xMC  Reference: U
PIC12F675, 1024W Flash, 64B SRAM, 128B EEPROM, DFN-8; ki_keywords: FLASH-Based 8-Bit CMOS Microcontroller; ki_fp_filters: DFN*1EP*3x2mm*P0.5mm*; Footprint: Package_DFN_QFN:DFN-8-1EP_3x2mm_P0.5mm_EP1.7x1.4mm; Datasheet: https://ww1.microchip.com/downloads/en/DeviceDoc/41190G.pdf; Description_: PIC12F675, 1024W Flash, 64B SRAM, 128B EEPROM, DFN-8
pins: 1 VDD, 2 GP5, 3 GP4, 4 GP3, 5 GP2, 6 GP1, 7 GP0, 8 VSS

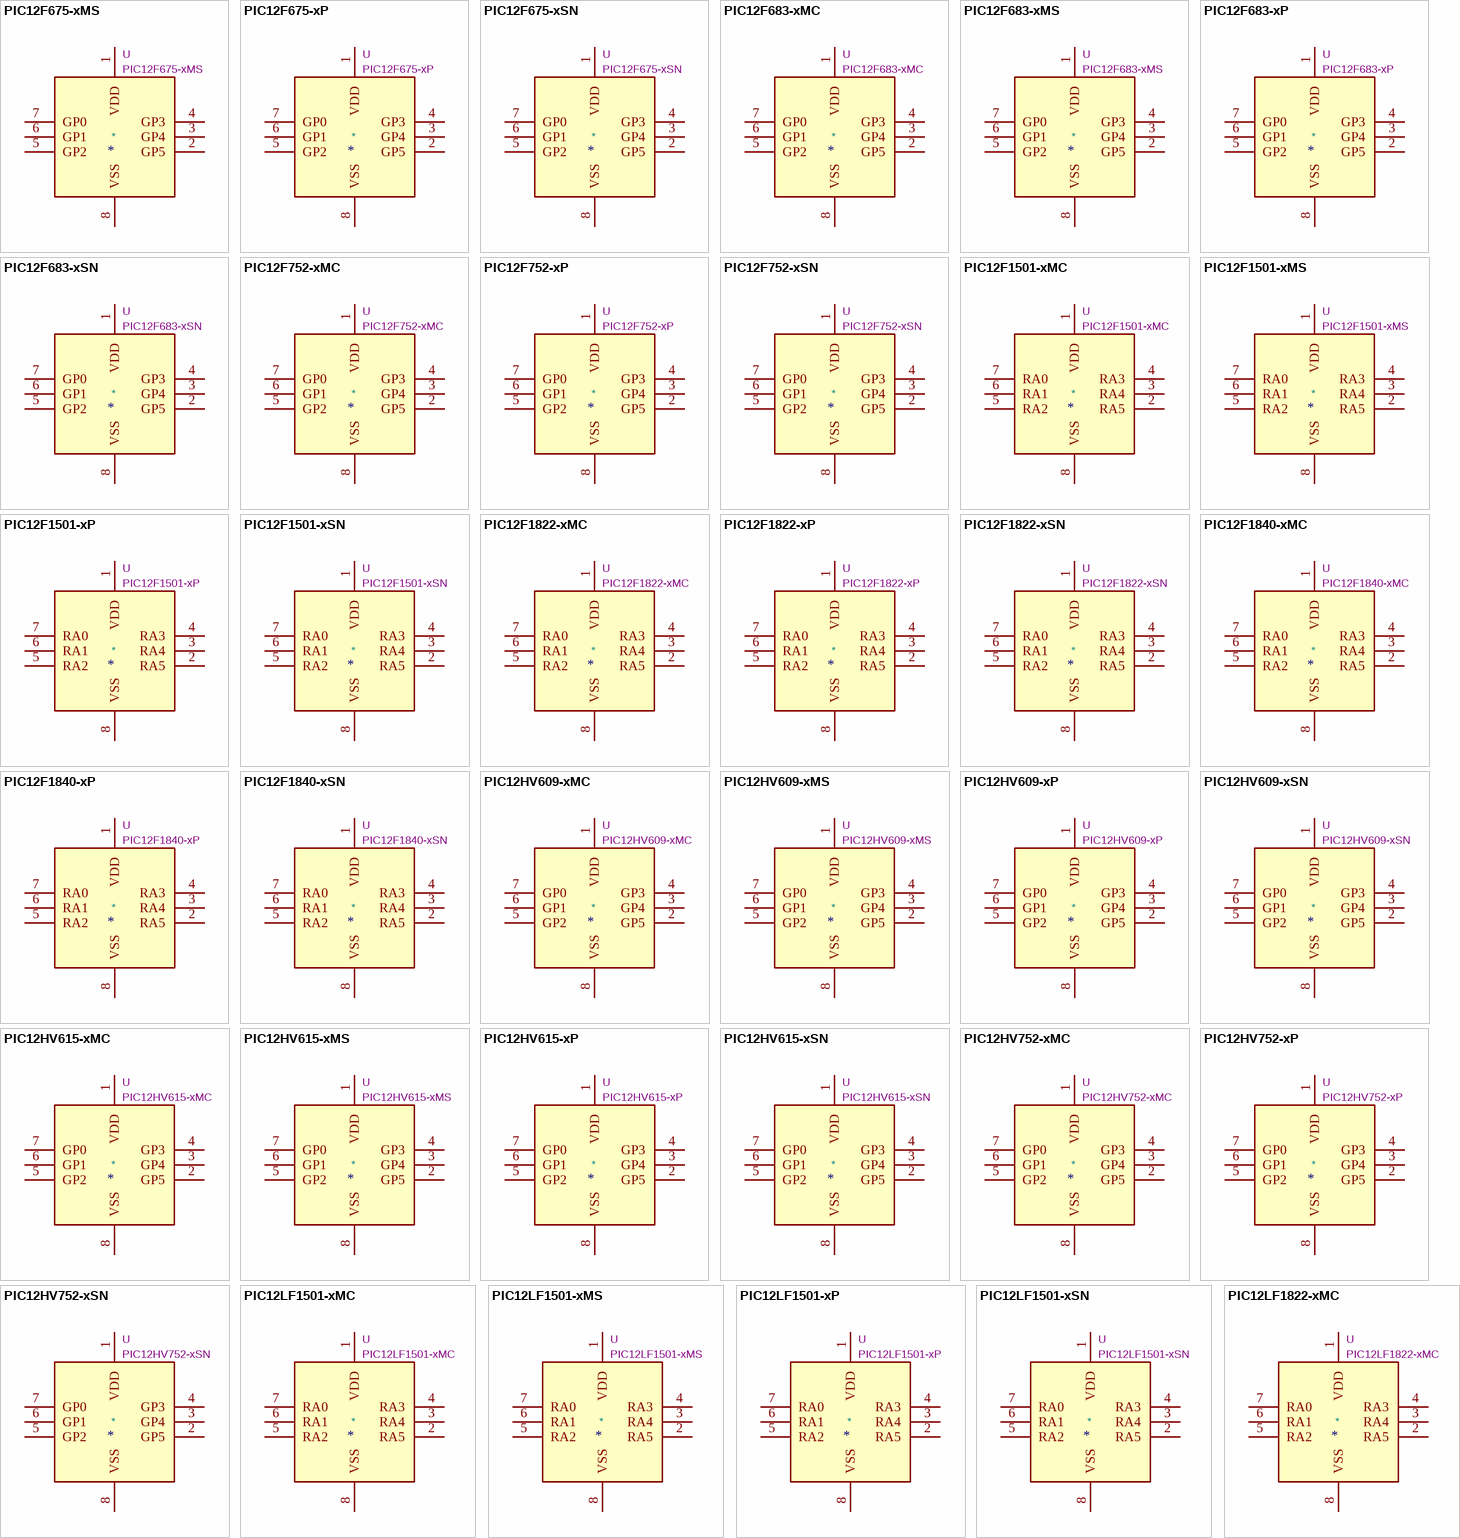
[diagram p2: symbols PIC12F675-xMS to PIC12LF1822-xMC]

## PIC12F675-xMS
designator *  value PIC12F675-xMS  Reference: U
1024W Flash, 64B SRAM, 128B EEPROM, PDIP8; ki_keywords: FLASH-Based 8-Bit CMOS Microcontroller; ki_fp_filters: MSOP*3x3mm*P0.65mm*; Footprint: Package_SO:MSOP-8_3x3mm_P0.65mm; Datasheet: https://ww1.microchip.com/downloads/en/DeviceDoc/41190G.pdf; Description_: 1024W Flash, 64B SRAM, 128B EEPROM, PDIP8
pins: 1 VDD, 2 GP5, 3 GP4, 4 GP3, 5 GP2, 6 GP1, 7 GP0, 8 VSS

## PIC12F675-xP
designator *  value PIC12F675-xP  Reference: U
1024W Flash, 64B SRAM, 128B EEPROM, PDIP-8; ki_keywords: FLASH-Based 8-Bit CMOS Microcontroller; ki_fp_filters: DIP*W7.62mm*; Footprint: Package_DIP:DIP-8_W7.62mm; Datasheet: https://ww1.microchip.com/downloads/en/DeviceDoc/41190G.pdf; Description_: 1024W Flash, 64B SRAM, 128B EEPROM, PDIP-8
pins: 1 VDD, 2 GP5, 3 GP4, 4 GP3, 5 GP2, 6 GP1, 7 GP0, 8 VSS

## PIC12F675-xSN
designator *  value PIC12F675-xSN  Reference: U
PIC12F675, 1024W Flash, 64B SRAM, 128B EEPROM, SOIC-8; ki_keywords: FLASH-Based 8-Bit CMOS Microcontroller; ki_fp_filters: SOIC*3.9x4.9mm*; Footprint: Package_SO:SOIC-8_3.9x4.9mm_P1.27mm; Datasheet: https://ww1.microchip.com/downloads/en/DeviceDoc/41190G.pdf; Description_: PIC12F675, 1024W Flash, 64B SRAM, 128B EEPROM, SOIC-8
pins: 1 VDD, 2 GP5, 3 GP4, 4 GP3, 5 GP2, 6 GP1, 7 GP0, 8 VSS

## PIC12F683-xMC
designator *  value PIC12F683-xMC  Reference: U
PIC12F683, 2048W Flash, 128B SRAM, 256B EEPROM, DFN-8; ki_keywords: FLASH-Based 8-Bit CMOS Microcontroller; ki_fp_filters: DFN*1EP*3x2mm*P0.5mm*; Footprint: Package_DFN_QFN:DFN-8-1EP_3x2mm_P0.5mm_EP1.7x1.4mm; Datasheet: https://ww1.microchip.com/downloads/en/DeviceDoc/41211D_.pdf; Description_: PIC12F683, 2048W Flash, 128B SRAM, 256B EEPROM, DFN-8
pins: 1 VDD, 2 GP5, 3 GP4, 4 GP3, 5 GP2, 6 GP1, 7 GP0, 8 VSS

## PIC12F683-xMS
designator *  value PIC12F683-xMS  Reference: U
2048W Flash, 128B SRAM, 256B EEPROM, PDIP8; ki_keywords: FLASH-Based 8-Bit CMOS Microcontroller; ki_fp_filters: MSOP*3x3mm*P0.65mm*; Footprint: Package_SO:MSOP-8_3x3mm_P0.65mm; Datasheet: https://ww1.microchip.com/downloads/en/DeviceDoc/41232D.pdf; Description_: 2048W Flash, 128B SRAM, 256B EEPROM, PDIP8
pins: 1 VDD, 2 GP5, 3 GP4, 4 GP3, 5 GP2, 6 GP1, 7 GP0, 8 VSS

## PIC12F683-xP
designator *  value PIC12F683-xP  Reference: U
2048W Flash, 128B SRAM, 256B EEPROM, PDIP-8; ki_keywords: FLASH-Based 8-Bit CMOS Microcontroller; ki_fp_filters: DIP*W7.62mm*; Footprint: Package_DIP:DIP-8_W7.62mm; Datasheet: https://ww1.microchip.com/downloads/en/DeviceDoc/41232D.pdf; Description_: 2048W Flash, 128B SRAM, 256B EEPROM, PDIP-8
pins: 1 VDD, 2 GP5, 3 GP4, 4 GP3, 5 GP2, 6 GP1, 7 GP0, 8 VSS

## PIC12F683-xSN
designator *  value PIC12F683-xSN  Reference: U
PIC12F683, 2048W Flash, 128B SRAM, 256B EEPROM, SOIC-8; ki_keywords: FLASH-Based 8-Bit CMOS Microcontroller; ki_fp_filters: SOIC*3.9x4.9mm*; Footprint: Package_SO:SOIC-8_3.9x4.9mm_P1.27mm; Datasheet: https://ww1.microchip.com/downloads/en/DeviceDoc/41211D_.pdf; Description_: PIC12F683, 2048W Flash, 128B SRAM, 256B EEPROM, SOIC-8
pins: 1 VDD, 2 GP5, 3 GP4, 4 GP3, 5 GP2, 6 GP1, 7 GP0, 8 VSS

## PIC12F752-xMC
designator *  value PIC12F752-xMC  Reference: U
PIC12F752, 1024W Flash, 64B SRAM, DFN-8; ki_keywords: FLASH-Based 8-Bit CMOS Microcontroller; ki_fp_filters: DFN*1EP*3x2mm*P0.5mm*; Footprint: Package_DFN_QFN:DFN-8-1EP_3x2mm_P0.5mm_EP1.7x1.4mm; Datasheet: https://ww1.microchip.com/downloads/en/DeviceDoc/41576B.pdf; Description_: PIC12F752, 1024W Flash, 64B SRAM, DFN-8
pins: 1 VDD, 2 GP5, 3 GP4, 4 GP3, 5 GP2, 6 GP1, 7 GP0, 8 VSS

## PIC12F752-xP
designator *  value PIC12F752-xP  Reference: U
1024W Flash, 64B SRAM, PDIP-8; ki_keywords: FLASH-Based 8-Bit CMOS Microcontroller; ki_fp_filters: DIP*W7.62mm*; Footprint: Package_DIP:DIP-8_W7.62mm; Datasheet: https://ww1.microchip.com/downloads/en/DeviceDoc/41576B.pdf; Description_: 1024W Flash, 64B SRAM, PDIP-8
pins: 1 VDD, 2 GP5, 3 GP4, 4 GP3, 5 GP2, 6 GP1, 7 GP0, 8 VSS

## PIC12F752-xSN
designator *  value PIC12F752-xSN  Reference: U
PIC12F752, 1024W Flash, 64B SRAM, SOIC-8; ki_keywords: FLASH-Based 8-Bit CMOS Microcontroller; ki_fp_filters: SOIC*3.9x4.9mm*; Footprint: Package_SO:SOIC-8_3.9x4.9mm_P1.27mm; Datasheet: https://ww1.microchip.com/downloads/en/DeviceDoc/41576B.pdf; Description_: PIC12F752, 1024W Flash, 64B SRAM, SOIC-8
pins: 1 VDD, 2 GP5, 3 GP4, 4 GP3, 5 GP2, 6 GP1, 7 GP0, 8 VSS

## PIC12F1501-xMC
designator *  value PIC12F1501-xMC  Reference: U
PIC12F1501, 1024W FLASH, 64B SRAM, DFN-8; ki_keywords: FLASH-Based 8-Bit CMOS Microcontroller Low Power; ki_fp_filters: DFN*1EP*3x2mm*P0.5mm*; Footprint: Package_DFN_QFN:DFN-8-1EP_3x2mm_P0.5mm_EP1.7x1.4mm; Datasheet: https://ww1.microchip.com/downloads/en/DeviceDoc/41615A.pdf; Description_: PIC12F1501, 1024W FLASH, 64B SRAM, DFN-8
pins: 1 VDD, 2 RA5, 3 RA4, 4 RA3, 5 RA2, 6 RA1, 7 RA0, 8 VSS

## PIC12F1501-xMS
designator *  value PIC12F1501-xMS  Reference: U
PIC12F1501, 1024W FLASH, 64B SRAM, MSOP-8; ki_keywords: FLASH-Based 8-Bit CMOS Microcontroller Low Power; ki_fp_filters: MSOP*3x3mm*P0.65mm*; Footprint: Package_SO:MSOP-8_3x3mm_P0.65mm; Datasheet: https://ww1.microchip.com/downloads/en/DeviceDoc/41615A.pdf; Description_: PIC12F1501, 1024W FLASH, 64B SRAM, MSOP-8
pins: 1 VDD, 2 RA5, 3 RA4, 4 RA3, 5 RA2, 6 RA1, 7 RA0, 8 VSS

## PIC12F1501-xP
designator *  value PIC12F1501-xP  Reference: U
1024W FLASH, 64B SRAM, PDIP-8; ki_keywords: FLASH-Based 8-Bit CMOS Microcontroller Low Power; ki_fp_filters: DIP*W7.62mm*; Footprint: Package_DIP:DIP-8_W7.62mm; Datasheet: https://ww1.microchip.com/downloads/en/DeviceDoc/41615A.pdf; Description_: 1024W FLASH, 64B SRAM, PDIP-8
pins: 1 VDD, 2 RA5, 3 RA4, 4 RA3, 5 RA2, 6 RA1, 7 RA0, 8 VSS

## PIC12F1501-xSN
designator *  value PIC12F1501-xSN  Reference: U
PIC12F1501, 1024W FLASH, 64B SRAM, SOIC-8; ki_keywords: FLASH-Based 8-Bit CMOS Microcontroller; ki_fp_filters: SOIC*3.9x4.9mm*; Footprint: Package_SO:SOIC-8_3.9x4.9mm_P1.27mm; Datasheet: https://ww1.microchip.com/downloads/en/DeviceDoc/41615A.pdf; Description_: PIC12F1501, 1024W FLASH, 64B SRAM, SOIC-8
pins: 1 VDD, 2 RA5, 3 RA4, 4 RA3, 5 RA2, 6 RA1, 7 RA0, 8 VSS

## PIC12F1822-xMC
designator *  value PIC12F1822-xMC  Reference: U
PIC12F1822, 2kW FLASH, 128B SRAM, 256 EEPROM, DFN-8; ki_keywords: FLASH-Based 8-Bit CMOS Microcontroller XLP; ki_fp_filters: DFN*1EP*3x2mm*P0.5mm*; Footprint: Package_DFN_QFN:DFN-8-1EP_3x2mm_P0.5mm_EP1.7x1.4mm; Datasheet: https://ww1.microchip.com/downloads/en/DeviceDoc/41413B.pdf; Description_: PIC12F1822, 2kW FLASH, 128B SRAM, 256 EEPROM, DFN-8
pins: 1 VDD, 2 RA5, 3 RA4, 4 RA3, 5 RA2, 6 RA1, 7 RA0, 8 VSS

## PIC12F1822-xP
designator *  value PIC12F1822-xP  Reference: U
2kW FLASH, 128B SRAM, 256 EEPROM, PDIP-8; ki_keywords: FLASH-Based 8-Bit CMOS Microcontroller XLP; ki_fp_filters: DIP*W7.62mm*; Footprint: Package_DIP:DIP-8_W7.62mm; Datasheet: https://ww1.microchip.com/downloads/en/DeviceDoc/41413B.pdf; Description_: 2kW FLASH, 128B SRAM, 256 EEPROM, PDIP-8
pins: 1 VDD, 2 RA5, 3 RA4, 4 RA3, 5 RA2, 6 RA1, 7 RA0, 8 VSS

## PIC12F1822-xSN
designator *  value PIC12F1822-xSN  Reference: U
PIC12F1822, 2kW FLASH, 128B SRAM, 256 EEPROM, SOIC-8; ki_keywords: FLASH-Based 8-Bit CMOS Microcontroller XLP; ki_fp_filters: SOIC*3.9x4.9mm*; Footprint: Package_SO:SOIC-8_3.9x4.9mm_P1.27mm; Datasheet: https://ww1.microchip.com/downloads/en/DeviceDoc/41413B.pdf; Description_: PIC12F1822, 2kW FLASH, 128B SRAM, 256 EEPROM, SOIC-8
pins: 1 VDD, 2 RA5, 3 RA4, 4 RA3, 5 RA2, 6 RA1, 7 RA0, 8 VSS

## PIC12F1840-xMC
designator *  value PIC12F1840-xMC  Reference: U
PIC12F1840, 4kW FLASH, 256B SRAM, 256B EEPROM, PDIP8; ki_keywords: FLASH-Based 8-Bit CMOS Microcontroller XLP; ki_fp_filters: DFN*1EP*3x2mm*P0.5mm*; Footprint: Package_DFN_QFN:DFN-8-1EP_3x2mm_P0.5mm_EP1.7x1.4mm; Datasheet: https://ww1.microchip.com/downloads/en/DeviceDoc/41441B.pdf; Description_: PIC12F1840, 4kW FLASH, 256B SRAM, 256B EEPROM, PDIP8
pins: 1 VDD, 2 RA5, 3 RA4, 4 RA3, 5 RA2, 6 RA1, 7 RA0, 8 VSS

## PIC12F1840-xP
designator *  value PIC12F1840-xP  Reference: U
4kW FLASH, 256B SRAM, 256B EEPROM, PDIP-8; ki_keywords: FLASH-Based 8-Bit CMOS Microcontroller XLP; ki_fp_filters: DIP*W7.62mm*; Footprint: Package_DIP:DIP-8_W7.62mm; Datasheet: https://ww1.microchip.com/downloads/en/DeviceDoc/41441B.pdf; Description_: 4kW FLASH, 256B SRAM, 256B EEPROM, PDIP-8
pins: 1 VDD, 2 RA5, 3 RA4, 4 RA3, 5 RA2, 6 RA1, 7 RA0, 8 VSS

## PIC12F1840-xSN
designator *  value PIC12F1840-xSN  Reference: U
PIC12F1840, 4kW FLASH, 256B SRAM, 256B EEPROM, SOIC-8; ki_keywords: FLASH-Based 8-Bit CMOS Microcontroller XLP; ki_fp_filters: SOIC*3.9x4.9mm*; Footprint: Package_SO:SOIC-8_3.9x4.9mm_P1.27mm; Datasheet: https://ww1.microchip.com/downloads/en/DeviceDoc/41441B.pdf; Description_: PIC12F1840, 4kW FLASH, 256B SRAM, 256B EEPROM, SOIC-8
pins: 1 VDD, 2 RA5, 3 RA4, 4 RA3, 5 RA2, 6 RA1, 7 RA0, 8 VSS

## PIC12HV609-xMC
designator *  value PIC12HV609-xMC  Reference: U
PIC12HV609, 1024W Flash, 64B SRAM, DFN-8; ki_keywords: FLASH-Based 8-Bit CMOS Microcontroller High Voltage; ki_fp_filters: DFN*1EP*3x2mm*P0.5mm*; Footprint: Package_DFN_QFN:DFN-8-1EP_3x2mm_P0.5mm_EP1.7x1.4mm; Datasheet: https://ww1.microchip.com/downloads/en/DeviceDoc/41302D.pdf; Description_: PIC12HV609, 1024W Flash, 64B SRAM, DFN-8
pins: 1 VDD, 2 GP5, 3 GP4, 4 GP3, 5 GP2, 6 GP1, 7 GP0, 8 VSS

## PIC12HV609-xMS
designator *  value PIC12HV609-xMS  Reference: U
PIC12HV609, 1024W Flash, 64B SRAM, MSOP-8; ki_keywords: FLASH-Based 8-Bit CMOS Microcontroller High Voltage; ki_fp_filters: MSOP*3x3mm*P0.65mm*; Footprint: Package_SO:MSOP-8_3x3mm_P0.65mm; Datasheet: https://ww1.microchip.com/downloads/en/DeviceDoc/41302D.pdf; Description_: PIC12HV609, 1024W Flash, 64B SRAM, MSOP-8
pins: 1 VDD, 2 GP5, 3 GP4, 4 GP3, 5 GP2, 6 GP1, 7 GP0, 8 VSS

## PIC12HV609-xP
designator *  value PIC12HV609-xP  Reference: U
1024W Flash, 64B SRAM, PDIP-8; ki_keywords: FLASH-Based 8-Bit CMOS Microcontroller High Voltage; ki_fp_filters: DIP*W7.62mm*; Footprint: Package_DIP:DIP-8_W7.62mm; Datasheet: https://ww1.microchip.com/downloads/en/DeviceDoc/41302D.pdf; Description_: 1024W Flash, 64B SRAM, PDIP-8
pins: 1 VDD, 2 GP5, 3 GP4, 4 GP3, 5 GP2, 6 GP1, 7 GP0, 8 VSS

## PIC12HV609-xSN
designator *  value PIC12HV609-xSN  Reference: U
PIC12HV609, 1024W Flash, 64B SRAM, SOIC-8; ki_keywords: FLASH-Based 8-Bit CMOS Microcontroller High Voltage; ki_fp_filters: SOIC*3.9x4.9mm*; Footprint: Package_SO:SOIC-8_3.9x4.9mm_P1.27mm; Datasheet: https://ww1.microchip.com/downloads/en/DeviceDoc/41302D.pdf; Description_: PIC12HV609, 1024W Flash, 64B SRAM, SOIC-8
pins: 1 VDD, 2 GP5, 3 GP4, 4 GP3, 5 GP2, 6 GP1, 7 GP0, 8 VSS

## PIC12HV615-xMC
designator *  value PIC12HV615-xMC  Reference: U
PIC12HV615, 1024W Flash, 64B SRAM, DFN-8; ki_keywords: FLASH-Based 8-Bit CMOS Microcontroller High Voltage; ki_fp_filters: DFN*1EP*3x2mm*P0.5mm*; Footprint: Package_DFN_QFN:DFN-8-1EP_3x2mm_P0.5mm_EP1.7x1.4mm; Datasheet: https://ww1.microchip.com/downloads/en/DeviceDoc/41302D.pdf; Description_: PIC12HV615, 1024W Flash, 64B SRAM, DFN-8
pins: 1 VDD, 2 GP5, 3 GP4, 4 GP3, 5 GP2, 6 GP1, 7 GP0, 8 VSS

## PIC12HV615-xMS
designator *  value PIC12HV615-xMS  Reference: U
PIC12HV615, 1024W Flash, 64B SRAM, MSOP-8; ki_keywords: FLASH-Based 8-Bit CMOS Microcontroller High Voltage; ki_fp_filters: MSOP*3x3mm*P0.65mm*; Footprint: Package_SO:MSOP-8_3x3mm_P0.65mm; Datasheet: https://ww1.microchip.com/downloads/en/DeviceDoc/41302D.pdf; Description_: PIC12HV615, 1024W Flash, 64B SRAM, MSOP-8
pins: 1 VDD, 2 GP5, 3 GP4, 4 GP3, 5 GP2, 6 GP1, 7 GP0, 8 VSS

## PIC12HV615-xP
designator *  value PIC12HV615-xP  Reference: U
1024W Flash, 64B SRAM, PDIP-8; ki_keywords: FLASH-Based 8-Bit CMOS Microcontroller High Voltage; ki_fp_filters: DIP*W7.62mm*; Footprint: Package_DIP:DIP-8_W7.62mm; Datasheet: https://ww1.microchip.com/downloads/en/DeviceDoc/41302D.pdf; Description_: 1024W Flash, 64B SRAM, PDIP-8
pins: 1 VDD, 2 GP5, 3 GP4, 4 GP3, 5 GP2, 6 GP1, 7 GP0, 8 VSS

## PIC12HV615-xSN
designator *  value PIC12HV615-xSN  Reference: U
PIC12HV615, 1024W Flash, 64B SRAM, SOIC-8; ki_keywords: FLASH-Based 8-Bit CMOS Microcontroller High Voltage; ki_fp_filters: SOIC*3.9x4.9mm*; Footprint: Package_SO:SOIC-8_3.9x4.9mm_P1.27mm; Datasheet: https://ww1.microchip.com/downloads/en/DeviceDoc/41302D.pdf; Description_: PIC12HV615, 1024W Flash, 64B SRAM, SOIC-8
pins: 1 VDD, 2 GP5, 3 GP4, 4 GP3, 5 GP2, 6 GP1, 7 GP0, 8 VSS

## PIC12HV752-xMC
designator *  value PIC12HV752-xMC  Reference: U
PIC12HV752, 1024W Flash, 64B SRAM, DFN-8; ki_keywords: FLASH-Based 8-Bit CMOS Microcontroller High Voltage; ki_fp_filters: DFN*1EP*3x2mm*P0.5mm*; Footprint: Package_DFN_QFN:DFN-8-1EP_3x2mm_P0.5mm_EP1.7x1.4mm; Datasheet: https://ww1.microchip.com/downloads/en/DeviceDoc/41576B.pdf; Description_: PIC12HV752, 1024W Flash, 64B SRAM, DFN-8
pins: 1 VDD, 2 GP5, 3 GP4, 4 GP3, 5 GP2, 6 GP1, 7 GP0, 8 VSS

## PIC12HV752-xP
designator *  value PIC12HV752-xP  Reference: U
1024W Flash, 64B SRAM, PDIP-8; ki_keywords: FLASH-Based 8-Bit CMOS Microcontroller High Voltage; ki_fp_filters: DIP*W7.62mm*; Footprint: Package_DIP:DIP-8_W7.62mm; Datasheet: https://ww1.microchip.com/downloads/en/DeviceDoc/41576B.pdf; Description_: 1024W Flash, 64B SRAM, PDIP-8
pins: 1 VDD, 2 GP5, 3 GP4, 4 GP3, 5 GP2, 6 GP1, 7 GP0, 8 VSS

## PIC12HV752-xSN
designator *  value PIC12HV752-xSN  Reference: U
PIC12HV752, 1024W Flash, 64B SRAM, SOIC-8; ki_keywords: FLASH-Based 8-Bit CMOS Microcontroller High Voltage; ki_fp_filters: SOIC*3.9x4.9mm*; Footprint: Package_SO:SOIC-8_3.9x4.9mm_P1.27mm; Datasheet: https://ww1.microchip.com/downloads/en/DeviceDoc/41576B.pdf; Description_: PIC12HV752, 1024W Flash, 64B SRAM, SOIC-8
pins: 1 VDD, 2 GP5, 3 GP4, 4 GP3, 5 GP2, 6 GP1, 7 GP0, 8 VSS

## PIC12LF1501-xMC
designator *  value PIC12LF1501-xMC  Reference: U
PIC12LF1501, 1024W FLASH, 64B SRAM, DFN-8; ki_keywords: FLASH-Based 8-Bit CMOS Microcontroller Low Power; ki_fp_filters: DFN*1EP*3x2mm*P0.5mm*; Footprint: Package_DFN_QFN:DFN-8-1EP_3x2mm_P0.5mm_EP1.7x1.4mm; Datasheet: https://ww1.microchip.com/downloads/en/DeviceDoc/41615A.pdf; Description_: PIC12LF1501, 1024W FLASH, 64B SRAM, DFN-8
pins: 1 VDD, 2 RA5, 3 RA4, 4 RA3, 5 RA2, 6 RA1, 7 RA0, 8 VSS

## PIC12LF1501-xMS
designator *  value PIC12LF1501-xMS  Reference: U
PIC12LF1501, 1024W FLASH, 64B SRAM, MSOP-8; ki_keywords: FLASH-Based 8-Bit CMOS Microcontroller Low Power; ki_fp_filters: MSOP*3x3mm*P0.65mm*; Footprint: Package_SO:MSOP-8_3x3mm_P0.65mm; Datasheet: https://ww1.microchip.com/downloads/en/DeviceDoc/41615A.pdf; Description_: PIC12LF1501, 1024W FLASH, 64B SRAM, MSOP-8
pins: 1 VDD, 2 RA5, 3 RA4, 4 RA3, 5 RA2, 6 RA1, 7 RA0, 8 VSS

## PIC12LF1501-xP
designator *  value PIC12LF1501-xP  Reference: U
1024W FLASH, 64B SRAM, PDIP-8; ki_keywords: FLASH-Based 8-Bit CMOS Microcontroller Low Power; ki_fp_filters: DIP*W7.62mm*; Footprint: Package_DIP:DIP-8_W7.62mm; Datasheet: https://ww1.microchip.com/downloads/en/DeviceDoc/41615A.pdf; Description_: 1024W FLASH, 64B SRAM, PDIP-8
pins: 1 VDD, 2 RA5, 3 RA4, 4 RA3, 5 RA2, 6 RA1, 7 RA0, 8 VSS

## PIC12LF1501-xSN
designator *  value PIC12LF1501-xSN  Reference: U
PIC12LF1501, 1024W FLASH, 64B SRAM, SOIC-8; ki_keywords: FLASH-Based 8-Bit CMOS Microcontroller; ki_fp_filters: SOIC*3.9x4.9mm*; Footprint: Package_SO:SOIC-8_3.9x4.9mm_P1.27mm; Datasheet: https://ww1.microchip.com/downloads/en/DeviceDoc/41615A.pdf; Description_: PIC12LF1501, 1024W FLASH, 64B SRAM, SOIC-8
pins: 1 VDD, 2 RA5, 3 RA4, 4 RA3, 5 RA2, 6 RA1, 7 RA0, 8 VSS

## PIC12LF1822-xMC
designator *  value PIC12LF1822-xMC  Reference: U
PIC12LF1822, 2kW FLASH, 128B SRAM, 256 EEPROM, DFN-8; ki_keywords: FLASH-Based 8-Bit CMOS Microcontroller XLP; ki_fp_filters: DFN*1EP*3x2mm*P0.5mm*; Footprint: Package_DFN_QFN:DFN-8-1EP_3x2mm_P0.5mm_EP1.7x1.4mm; Datasheet: https://ww1.microchip.com/downloads/en/DeviceDoc/41413B.pdf; Description_: PIC12LF1822, 2kW FLASH, 128B SRAM, 256 EEPROM, DFN-8
pins: 1 VDD, 2 RA5, 3 RA4, 4 RA3, 5 RA2, 6 RA1, 7 RA0, 8 VSS

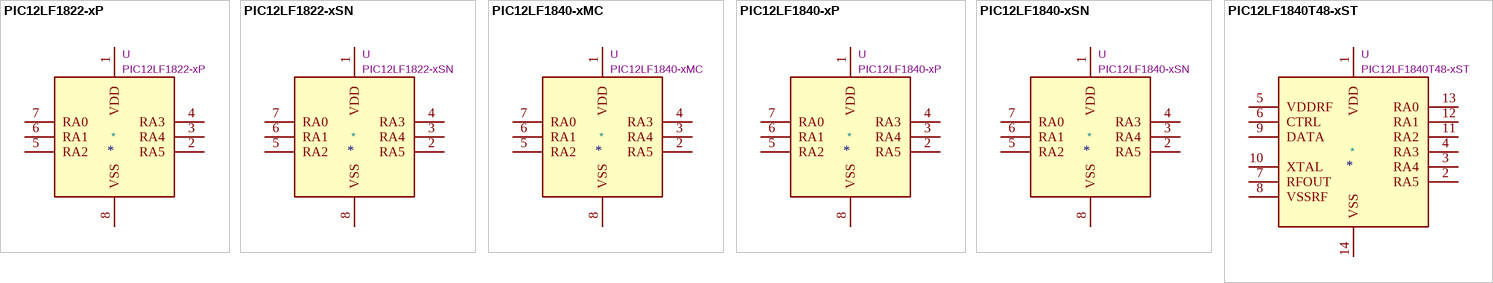
[diagram p3: symbols PIC12LF1822-xP to PIC12LF1840T48-xST]

## PIC12LF1822-xP
designator *  value PIC12LF1822-xP  Reference: U
2kW FLASH, 128B SRAM, 256 EEPROM, PDIP-8; ki_keywords: FLASH-Based 8-Bit CMOS Microcontroller XLP; ki_fp_filters: DIP*W7.62mm*; Footprint: Package_DIP:DIP-8_W7.62mm; Datasheet: https://ww1.microchip.com/downloads/en/DeviceDoc/41413B.pdf; Description_: 2kW FLASH, 128B SRAM, 256 EEPROM, PDIP-8
pins: 1 VDD, 2 RA5, 3 RA4, 4 RA3, 5 RA2, 6 RA1, 7 RA0, 8 VSS

## PIC12LF1822-xSN
designator *  value PIC12LF1822-xSN  Reference: U
PIC12LF1822, 2kW FLASH, 128B SRAM, 256 EEPROM, SOIC-8; ki_keywords: FLASH-Based 8-Bit CMOS Microcontroller XLP; ki_fp_filters: SOIC*3.9x4.9mm*; Footprint: Package_SO:SOIC-8_3.9x4.9mm_P1.27mm; Datasheet: https://ww1.microchip.com/downloads/en/DeviceDoc/41413B.pdf; Description_: PIC12LF1822, 2kW FLASH, 128B SRAM, 256 EEPROM, SOIC-8
pins: 1 VDD, 2 RA5, 3 RA4, 4 RA3, 5 RA2, 6 RA1, 7 RA0, 8 VSS

## PIC12LF1840-xMC
designator *  value PIC12LF1840-xMC  Reference: U
PIC12LF1840, 4kW FLASH, 256B SRAM, 256B EEPROM, PDIP8; ki_keywords: FLASH-Based 8-Bit CMOS Microcontroller XLP; ki_fp_filters: DFN*1EP*3x2mm*P0.5mm*; Footprint: Package_DFN_QFN:DFN-8-1EP_3x2mm_P0.5mm_EP1.7x1.4mm; Datasheet: https://ww1.microchip.com/downloads/en/DeviceDoc/41441B.pdf; Description_: PIC12LF1840, 4kW FLASH, 256B SRAM, 256B EEPROM, PDIP8
pins: 1 VDD, 2 RA5, 3 RA4, 4 RA3, 5 RA2, 6 RA1, 7 RA0, 8 VSS

## PIC12LF1840-xP
designator *  value PIC12LF1840-xP  Reference: U
4kW FLASH, 256B SRAM, 256B EEPROM, PDIP-8; ki_keywords: FLASH-Based 8-Bit CMOS Microcontroller XLP; ki_fp_filters: DIP*W7.62mm*; Footprint: Package_DIP:DIP-8_W7.62mm; Datasheet: https://ww1.microchip.com/downloads/en/DeviceDoc/41441B.pdf; Description_: 4kW FLASH, 256B SRAM, 256B EEPROM, PDIP-8
pins: 1 VDD, 2 RA5, 3 RA4, 4 RA3, 5 RA2, 6 RA1, 7 RA0, 8 VSS

## PIC12LF1840-xSN
designator *  value PIC12LF1840-xSN  Reference: U
PIC12LF1840, 4kW FLASH, 256B SRAM, 256B EEPROM, SOIC-8; ki_keywords: FLASH-Based 8-Bit CMOS Microcontroller XLP; ki_fp_filters: SOIC*3.9x4.9mm*; Footprint: Package_SO:SOIC-8_3.9x4.9mm_P1.27mm; Datasheet: https://ww1.microchip.com/downloads/en/DeviceDoc/41441B.pdf; Description_: PIC12LF1840, 4kW FLASH, 256B SRAM, 256B EEPROM, SOIC-8
pins: 1 VDD, 2 RA5, 3 RA4, 4 RA3, 5 RA2, 6 RA1, 7 RA0, 8 VSS